# Altium footprint library CRYSTAL_6x3.5_16MHz.PcbLib: 1 footprints
Each footprint in its own frame and in the unit in brackets; x right, y up, seen from the top. Pads: shape width x height; smd on the part's side, far side on the other; paste and mask are expansions set on the pad; w line width, h text height; cw(c..) or ccw(c..) is an arc to the next point about the centre after c.
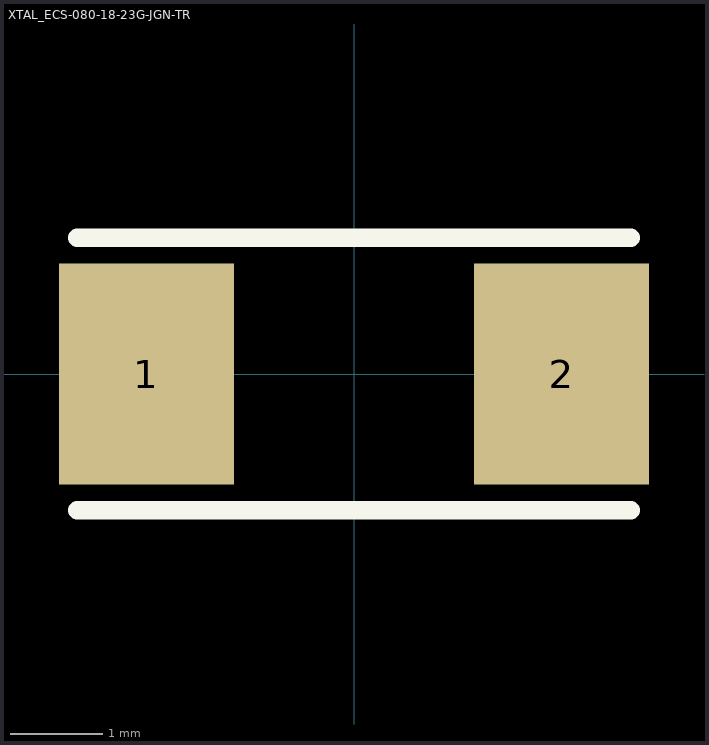
[diagram p0: the footprint, top view; thin cyan lines are the x and y axes]

## XTAL_ECS-080-18-23G-JGN-TR [mm]
pads (2):
  rect 1.9x2.4 smd: 1(-2.25,0) 2(2.25,0)
Top Overlay:
  lines w0.2: -3,-1.475 3,-1.475 ; -3,1.475 3,1.475
3D body "CRYSTAL.STEP": height 1.3, standoff 0, extent -2.5,-1.6 2.5,1.6
3D body: height 1.2, standoff 0, extent -3.048,2.413 -3.048,2.413